# EAGLE library part MINI-USB-AB-SOCKET_USB5MINI_4SH (library BeagleBone_Black_egl)
MINI-USB-AB-SOCKET_USB5MINI_4SH
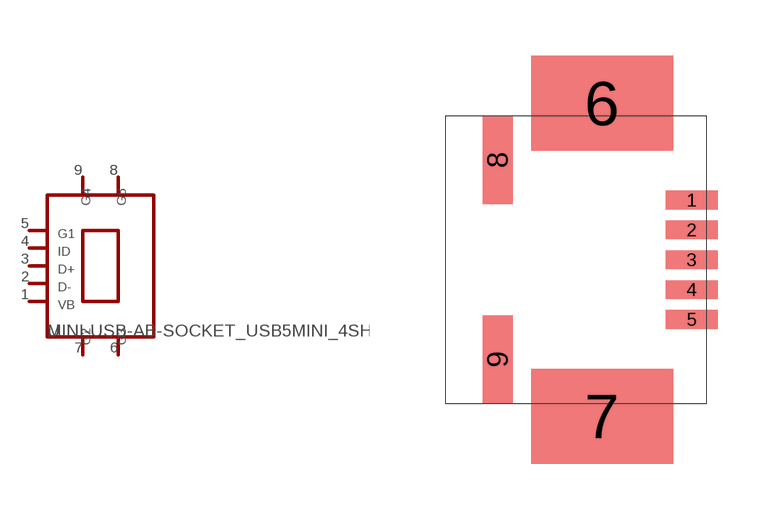
[diagram p14: symbol with the pads of USB5MINI_4SHIELDED_SMD-5; footprint USB5MINI_4SHIELDED_SMD-5]

Designator prefix -

## MINI-USB-AB-SOCKET_USB5MINI_4SH  [USB5MINI_4SHIELDED_SMD-5]
1  3
2  1
3  2
4  4
5  7
6  6
7  5
8  8
9  9

## Footprint USB5MINI_4SHIELDED_SMD-5 (pad centres in mm)
smd 1.4 x 0.5: 1 0,1.6; 2 0,0.8; 3 0,0; 4 0,-0.8; 5 0,-1.6
smd 3.81 x 2.54: 6 -2.4,4.2; 7 -2.4,-4.2
smd 0.8 x 2.35: 8 -5.2,2.675; 9 -5.2,-2.675